# EAGLE library part LPC210X (library Traficon)
32bit microcontroller. 128K flash, 64K RAM
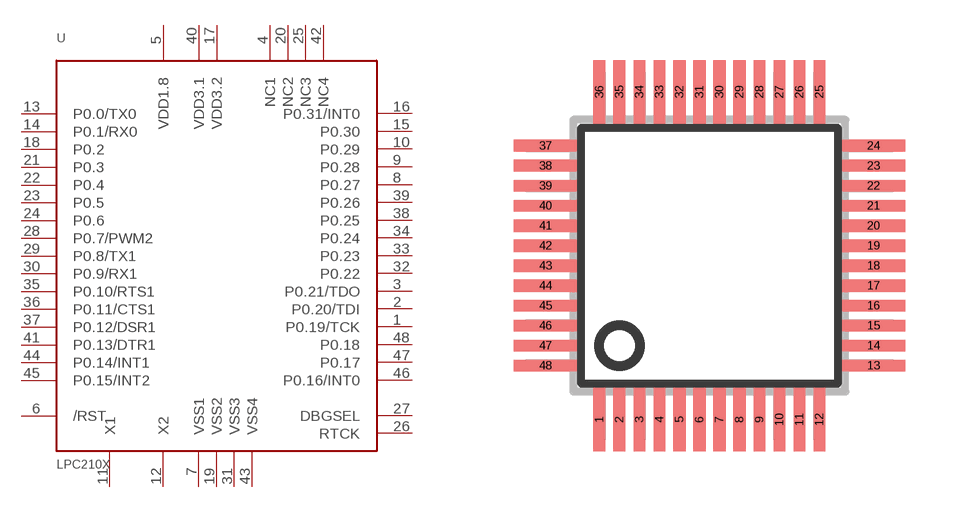
[diagram p2: symbol with the pads of SQFP-S-7X7-48; footprint SQFP-S-7X7-48]

Designator prefix -

## LPC210X  [SQFP-S-7X7-48]
1  P0.19/TCK
2  P0.20/TDI
3  P0.21/TDO
4  NC1  pas
5  VDD1.8  pas
6  /RST  in
7  VSS1  pas
8  P0.27
9  P0.28
10  P0.29
11  X1  in
12  X2  out
13  P0.0/TX0
14  P0.1/RX0
15  P0.30
16  P0.31/INT0
17  VDD3.2  pas
18  P0.2
19  VSS2  pas
20  NC2  pas
21  P0.3
22  P0.4
23  P0.5
24  P0.6
25  NC3  pas
26  RTCK  out
27  DBGSEL  in
28  P0.7/PWM2
29  P0.8/TX1
30  P0.9/RX1
31  VSS3  pas
32  P0.22
33  P0.23
34  P0.24
35  P0.10/RTS1
36  P0.11/CTS1
37  P0.12/DSR1
38  P0.25
39  P0.26
40  VDD3.1  pas
41  P0.13/DTR1
42  NC4  pas
43  VSS4  pas
44  P0.14/INT1
45  P0.15/INT2
46  P0.16/INT0
47  P0.17
48  P0.18

## Footprint SQFP-S-7X7-48 (pad centres in mm)
QFP48 shrink quad flat pack, square
smd 0.3 x 1.6: 1 -2.75,-4.1; 2 -2.25,-4.1; 3 -1.75,-4.1; 4 -1.25,-4.1; 5 -0.75,-4.1; 6 -0.25,-4.1; 7 0.25,-4.1; 8 0.75,-4.1; 9 1.25,-4.1; 10 1.75,-4.1; 11 2.25,-4.1; 12 2.75,-4.1; 25 2.75,4.1; 26 2.25,4.1; 27 1.75,4.1; 28 1.25,4.1; 29 0.75,4.1; 30 0.25,4.1; 31 -0.25,4.1; 32 -0.75,4.1; 33 -1.25,4.1; 34 -1.75,4.1; 35 -2.25,4.1; 36 -2.75,4.1
smd 1.6 x 0.3: 13 4.1,-2.75; 14 4.1,-2.25; 15 4.1,-1.75; 16 4.1,-1.25; 17 4.1,-0.75; 18 4.1,-0.25; 19 4.1,0.25; 20 4.1,0.75; 21 4.1,1.25; 22 4.1,1.75; 23 4.1,2.25; 24 4.1,2.75; 37 -4.1,2.75; 38 -4.1,2.25; 39 -4.1,1.75; 40 -4.1,1.25; 41 -4.1,0.75; 42 -4.1,0.25; 43 -4.1,-0.25; 44 -4.1,-0.75; 45 -4.1,-1.25; 46 -4.1,-1.75; 47 -4.1,-2.25; 48 -4.1,-2.75